# Altium footprint library DDS1.PcbLib: 136 footprints (part 6 of 9)
Each footprint in its own frame and in the unit in brackets; x right, y up, seen from the top. Pads: shape width x height; smd on the part's side, far side on the other; paste and mask are expansions set on the pad; w line width, h text height; cw(c..) or ccw(c..) is an arc to the next point about the centre after c.
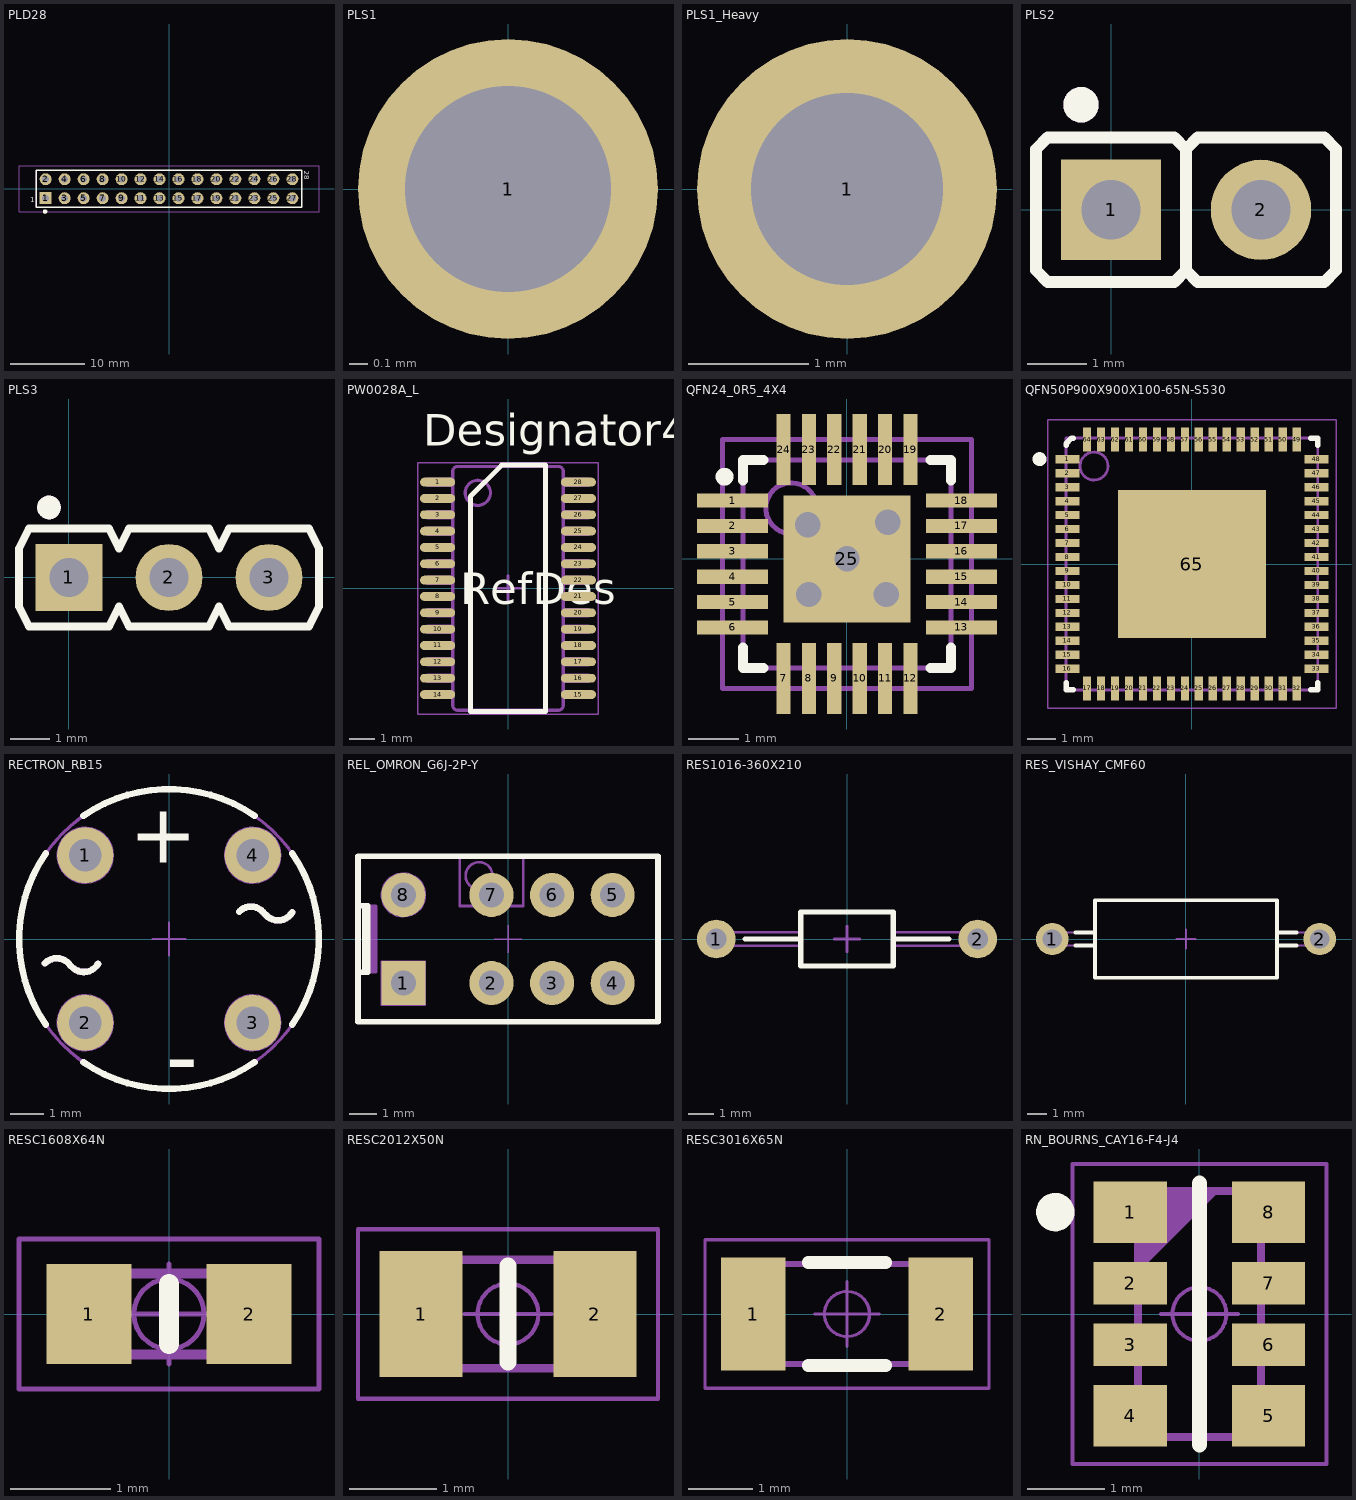
[diagram p5: the footprints below, top view; thin cyan lines are the x and y axes]

## PLD28 [mm]
pads (28):
  rect 1.6x1.6 hole 0.9: 1(-16.51,-1.27)
  round 1.6 hole 0.9: 2(-16.51,1.27) 3(-13.97,-1.27) 4(-13.97,1.27) 5(-11.43,-1.27) 6(-11.43,1.27) 7(-8.89,-1.27) 8(-8.89,1.27) 9(-6.35,-1.27) 10(-6.35,1.27) 11(-3.81,-1.27) 12(-3.81,1.27) 13(-1.27,-1.27) 14(-1.27,1.27) 15(1.27,-1.27) 16(1.27,1.27) 17(3.81,-1.27) 18(3.81,1.27) 19(6.35,-1.27) 20(6.35,1.27) 21(8.89,-1.27) 22(8.89,1.27) 23(11.43,-1.27) 24(11.43,1.27) 25(13.97,-1.27) 26(13.97,1.27) 27(16.51,-1.27) 28(16.51,1.27)
Top Overlay:
  circle w0.3: c-16.583,-3.048 r0.15
  lines w0.2: -17.78,-2.5 17.78,-2.5 17.78,2.5 -17.78,2.5 -17.78,-2.5
  text "28" at 18.125,2.427 h0.7
  text "1" at -18.542,-1.778 h0.7
Mechanical 8:
  lines w0.1: -20.07,-3.05 20.07,-3.05 20.07,3.05 -20.07,3.05 -20.07,-3.05
Mechanical 14:
  lines w0.1: -17.78,-2.5 17.78,-2.5 17.78,2.5 -17.78,2.5 -17.78,-2.5
3D body "COMATEL_389.0358.1.28.400.stp": height 8, standoff -3.2, extent -17.78,-3 17.78,2.5

## PLS1 [mm]
pads (1):
  round 1.6 hole 1.1: 1(0,0)

## PLS1_Heavy [mm]
pads (1):
  round 2.5 hole 1.6: 1(0,0)

## PLS2 [mm] "2 Contacts Straight Strip Header Pitch 2.54mm L=6.7mm ''Mini-Wire-Wrap''"
height 9.5
pads (2):
  rect 1.7x1.7 hole 1: 1(0,0)
  round 1.7 hole 1: 2(2.54,0)
Top Overlay:
  circle w0.3: c-0.508,1.778 r0.15
  lines w0.2: 1.27,-1.025 1.07,-1.225 -1.07,-1.225 -1.27,-1.025 -1.27,1.025 -1.07,1.225 1.07,1.225 1.27,1.025 ; 1.27,-1.025 1.27,1.025 ; 1.27,-1.025 1.47,-1.225 3.61,-1.225 3.81,-1.025 3.81,1.025 3.61,1.225 1.47,1.225 1.27,1.025
Mechanical 14:
  circle w0.3: c-0.508,1.778 r0.15
  lines w0.1: 1.27,-1.025 1.07,-1.225 -1.07,-1.225 -1.27,-1.025 -1.27,1.025 -1.07,1.225 1.07,1.225 1.27,1.025 ; 1.27,-1.025 1.27,1.025 ; 1.27,-1.025 1.47,-1.225 3.61,-1.225 3.81,-1.025 3.81,1.025 3.61,1.225 1.47,1.225 1.27,1.025
3D body "TYCO_826629-2.stp": height 9.5, standoff -3.2, extent -1.22,-1.25 3.86,1.25

## PLS3 [mm] "3 Contacts - Pitch 2.54mm - Single Row Through Mount Straight Header (Post Lead = 6.35mm, Tail Lead 3.05mm, Insulator 1.52mm)"
height 7.87
pads (3):
  rect 1.7x1.7 hole 1: 1(0,0)
  round 1.7 hole 1: 2(2.54,0) 3(5.08,0)
Top Overlay:
  circle w0.3: c-0.508,1.778 r0.15
  lines w0.2: -1.27,-0.737 -1.27,0.737 -1.016,1.245 1.016,1.245 1.27,0.737 1.524,1.245 3.556,1.245 3.81,0.737 4.064,1.245 6.096,1.245 6.35,0.737 6.35,-0.737 6.096,-1.245 4.064,-1.245 3.81,-0.737 3.556,-1.245 1.524,-1.245 1.27,-0.737 1.016,-1.245 -1.016,-1.245 -1.27,-0.737
Mechanical 8:
  lines w0.1: -0.5,0 0,0 ; 0,-0.5 0,0 ; 0,0.5 0,0 ; 0.5,0 0,0 ; 2.04,0 2.54,0 ; 2.54,-0.5 2.54,0 ; 2.54,0.5 2.54,0 ; 3.04,0 2.54,0 ; 4.58,0 5.08,0 ; 5.08,-0.5 5.08,0 ; 5.08,0.5 5.08,0 ; 5.58,0 5.08,0
Mechanical 14:
  circle w0.3: c-0.508,1.778 r0.15
  lines w0.1: -1.27,-0.737 -1.27,0.737 -1.016,1.245 1.016,1.245 1.27,0.737 1.524,1.245 3.556,1.245 3.81,0.737 4.064,1.245 6.096,1.245 6.35,0.737 6.35,-0.737 6.096,-1.245 4.064,-1.245 3.81,-0.737 3.556,-1.245 1.524,-1.245 1.27,-0.737 1.016,-1.245 -1.016,-1.245 -1.27,-0.737 ; -0.317,-0.318 -0.317,0.318 0.318,0.318 0.318,-0.318 -0.317,-0.318 ; 2.223,-0.318 2.223,0.318 2.858,0.318 2.858,-0.318 2.223,-0.318 ; 4.763,-0.318 4.763,0.318 5.398,0.318 5.398,-0.318 4.763,-0.318
3D body "SAMTEC_MTLW-103-07-L-S-250.stp": height 7.87, standoff -3.05, extent -1.27,-1.244 6.35,1.245

## PW0028A_L [mm]
pads (28):
  oval 1.4x0.35 smd paste+0 mask+0.051: 1(-2.8,4.225) 2(-2.8,3.575) 3(-2.8,2.925) 4(-2.8,2.275) 5(-2.8,1.625) 6(-2.8,0.975) 7(-2.8,0.325) 8(-2.8,-0.325) 9(-2.8,-0.975) 10(-2.8,-1.625) 11(-2.8,-2.275) 12(-2.8,-2.925) 13(-2.8,-3.575) 14(-2.8,-4.225) 15(2.8,-4.225) 16(2.8,-3.575) 17(2.8,-2.925) 18(2.8,-2.275) 19(2.8,-1.625) 20(2.8,-0.975) 21(2.8,-0.325) 22(2.8,0.325) 23(2.8,0.975) 24(2.8,1.625) 25(2.8,2.275) 26(2.8,2.925) 27(2.8,3.575) 28(2.8,4.225)
Top Overlay:
  lines w0.2: -1.5,-4.9 1.5,-4.9 1.5,4.9 -0.25,4.9 -1.5,3.65 -1.5,-4.9
  text "RefDes" at -1.905,-0.635 h1.27
  text "Designator459" at -3.378,5.664 h1.27
Mechanical 13:
  drawing of 346 lines, arcs and shapes, not listed
Mechanical 15:
  lines w0.05: -3.6,-5 3.6,-5 3.6,5 -3.6,5 -3.6,-5
  lines w0.1: -0.5,0 0.5,0 ; 0,-0.5 0,0.5

## QFN24_0R5_4X4 [mm] "SQFN 24 Pins, Pitch 0.5mm, 4mmx4mm"
height 1
pads (25):
  rect 1.4x0.28 smd: 1(-2.255,1.15) 2(-2.255,0.65) 3(-2.255,0.15) 4(-2.255,-0.35) 5(-2.255,-0.85) 6(-2.255,-1.35) 13(2.255,-1.35) 14(2.255,-0.85) 15(2.255,-0.35) 16(2.255,0.15) 17(2.255,0.65) 18(2.255,1.15)
  rect 0.28x1.4 smd: 7(-1.25,-2.355) 8(-0.75,-2.355) 9(-0.25,-2.355) 10(0.25,-2.355) 11(0.75,-2.355) 12(1.25,-2.355) 19(1.25,2.155) 20(0.75,2.155) 21(0.25,2.155) 22(-0.25,2.155) 23(-0.75,2.155) 24(-1.25,2.155)
  rect 2.5x2.5 all layers, no hole: 25(0,0)
via 0.775,-0.7 diameter 0.9 hole 0.5
via -0.775,0.675 diameter 0.9 hole 0.5
via 0.8,0.725 diameter 0.9 hole 0.5
via -0.75,-0.7 diameter 0.9 hole 0.5
via 0,0 diameter 0.9 hole 0.5
Top Overlay:
  circle w0.25: c-2.413,1.619 r0.051
  lines w0.2: -2.05,-1.751 -2.05,-2.15 -1.651,-2.15 ; -2.05,1.551 -2.05,1.95 -1.651,1.95 ; 1.651,-2.15 2.05,-2.15 2.05,-1.751 ; 1.651,1.95 2.05,1.95 2.05,1.551
Mechanical 13:
  circle w0.1: c-1.1,1 r0.5
  lines w0.1: -2.05,-2.15 -2.05,1.95 2.05,1.95 2.05,-2.15 -2.05,-2.15
Mechanical 15:
  lines w0.1: -0.5,-0.1 0.5,-0.1 ; 0,-0.6 0,0.4 ; -2.45,-2.55 -2.45,2.35 2.45,2.35 2.45,-2.55 -2.45,-2.55
3D body: height 1, standoff 0.02, extent -2.05,-2.15 2.05,1.95

## QFN50P900X900X100-65N-S530 [mm]
height 9.7
pads (65):
  rect 0.85x0.3 smd: 1(-4.45,3.75) 2(-4.45,3.25) 3(-4.45,2.75) 4(-4.45,2.25) 5(-4.45,1.75) 6(-4.45,1.25) 7(-4.45,0.75) 8(-4.45,0.25) 9(-4.45,-0.25) 10(-4.45,-0.75) 11(-4.45,-1.25) 12(-4.45,-1.75) 13(-4.45,-2.25) 14(-4.45,-2.75) 15(-4.45,-3.25) 16(-4.45,-3.75) 33(4.45,-3.75) 34(4.45,-3.25) 35(4.45,-2.75) 36(4.45,-2.25) 37(4.45,-1.75) 38(4.45,-1.25) 39(4.45,-0.75) 40(4.45,-0.25) 41(4.45,0.25) 42(4.45,0.75) 43(4.45,1.25) 44(4.45,1.75) 45(4.45,2.25) 46(4.45,2.75) 47(4.45,3.25) 48(4.45,3.75)
  rect 0.3x0.85 smd: 17(-3.75,-4.45) 18(-3.25,-4.45) 19(-2.75,-4.45) 20(-2.25,-4.45) 21(-1.75,-4.45) 22(-1.25,-4.45) 23(-0.75,-4.45) 24(-0.25,-4.45) 25(0.25,-4.45) 26(0.75,-4.45) 27(1.25,-4.45) 28(1.75,-4.45) 29(2.25,-4.45) 30(2.75,-4.45) 31(3.25,-4.45) 32(3.75,-4.45) 49(3.75,4.45) 50(3.25,4.45) 51(2.75,4.45) 52(2.25,4.45) 53(1.75,4.45) 54(1.25,4.45) 55(0.75,4.45) 56(0.25,4.45) 57(-0.25,4.45) 58(-0.75,4.45) 59(-1.25,4.45) 60(-1.75,4.45) 61(-2.25,4.45) 62(-2.75,4.45) 63(-3.25,4.45) 64(-3.75,4.45)
  rect 5.3x5.3 smd: 65(0,0)
Top Overlay:
  circle w0.25: c-5.45,3.75 r0.125
  lines w0.2: -4.5,-4.25 -4.5,-4.5 -4.25,-4.5 ; -4.5,4.25 -4.5,4.3 -4.3,4.5 -4.25,4.5 ; 4.25,-4.5 4.5,-4.5 4.5,-4.25 ; 4.25,4.5 4.5,4.5 4.5,4.25
Top Paste:
  region: -1.98,-2.5 -0.36,-2.5 -0.36,-0.36 -1.98,-0.36
  region: 0.36,-2.5 1.98,-2.5 1.98,-0.36 0.36,-0.36
  region: -1.98,0.36 -0.36,0.36 -0.36,2.5 -1.98,2.5
  region: 0.36,0.36 1.98,0.36 1.98,2.5 0.36,2.5
Mechanical 14:
  circle w0.1: c-3.5,3.5 r0.5
  lines w0.1: -4.5,-4.5 4.5,-4.5 4.5,4.5 -4.5,4.5 -4.5,-4.5
Mechanical 15:
  circle w0.05: c0,0 r0.35
  lines w0.05: -0.5,0 0.5,0 ; 0,-0.5 0,0.5 ; -5.15,-5.15 5.15,-5.15 5.15,5.15 -5.15,5.15 -5.15,-5.15
3D body "QFN50P900X900X100-65N-R541X645.stp": height 1, standoff 0, extent -4.5,-4.5 4.5,4.5

## RECTRON_RB15 [mm] "Bridge Rectifier, Body 9.1mm diam. x 3.8mm H, RECTRON Case Type RB15"
height 11.7
pads (4):
  round 1.7 hole 1: 1(-2.54,2.54) 2(-2.54,-2.54) 3(2.54,-2.54) 4(2.54,2.54)
Top Overlay:
  lines w0.2: -3.765,-0.737 cw(c-3.405,-1.084) -2.99,-0.805 ; -3.739,-2.593 cw(c0,0) -3.739,2.593 ; -2.965,-0.825 ccw(c-2.584,-0.502) -2.155,-0.759 ; -2.593,-3.739 ccw(c0,0) 2.593,-3.739 ; -2.593,3.739 cw(c0,0) 2.593,3.739 ; 2.125,0.828 cw(c2.485,0.481) 2.9,0.76 ; 2.925,0.74 ccw(c3.306,1.063) 3.735,0.806 ; 3.739,-2.593 ccw(c0,0) 3.739,2.593
  text "+" at -1.2,2.32 h1.8
  text "-" at -0.105,-4.52 h2
Mechanical 8:
  circle w0.05: c-2.54,2.54 r0.85
  circle w0.05: c-2.54,2.54 r0.5
  circle w0.05: c2.54,2.54 r0.85
  circle w0.05: c2.54,2.54 r0.5
  circle w0.05: c2.54,-2.54 r0.85
  circle w0.05: c2.54,-2.54 r0.5
  circle w0.05: c-2.54,-2.54 r0.85
  circle w0.05: c-2.54,-2.54 r0.5
  lines w0.05: -3.04,-2.54 -2.54,-2.54 ; -3.04,2.54 -2.54,2.54 ; -2.54,-3.04 -2.54,-2.54 ; -2.54,-2.04 -2.54,-2.54 ; -2.54,2.04 -2.54,2.54 ; -2.54,3.04 -2.54,2.54 ; -2.04,-2.54 -2.54,-2.54 ; -2.04,2.54 -2.54,2.54 ; -0.5,0 0,0 ; 0,-0.5 0,0 ; 0,0.5 0,0 ; 0.5,0 0,0 ; 2.04,-2.54 2.54,-2.54 ; 2.04,2.54 2.54,2.54 ; 2.54,-3.04 2.54,-2.54 ; 2.54,-2.04 2.54,-2.54 ; 2.54,2.04 2.54,2.54 ; 2.54,3.04 2.54,2.54 ; 3.04,-2.54 2.54,-2.54 ; 3.04,2.54 2.54,2.54
Mechanical 14:
  circle w0.1: c0,0 r4.55
  lines w0.2: -3.765,-0.737 cw(c-3.405,-1.084) -2.99,-0.805 ; -2.965,-0.825 ccw(c-2.584,-0.502) -2.155,-0.759 ; 2.125,0.828 cw(c2.485,0.481) 2.9,0.76 ; 2.925,0.74 ccw(c3.306,1.063) 3.735,0.806
  text "+" at -1.2,2.32 h1.8
  text "-" at -0.105,-4.52 h2
3D body "RECTRON_RB15.stp": height 11.7, standoff -3.2, extent -4.55,-4.55 4.55,4.55

## REL_OMRON_G6J-2P-Y [mm] "THT Relay, Body 10.9mm x 6mm, OMRON_G6J-2P"
height 9.3
pads (8):
  rect 1.6x1.6 hole 0.9: 1(-3.8,-1.6)
  round 1.6 hole 0.9: 2(-0.6,-1.6) 3(1.6,-1.6) 4(3.8,-1.6) 5(3.8,1.6) 6(1.6,1.6) 7(-0.6,1.6) 8(-3.8,1.6)
Top Overlay:
  lines w0.2: -5.3,-1.2 -5.1,-1.2 -5.1,1.2 -5.3,1.2 ; -5.2,-1.2 -5.2,1.2 ; -5.45,-3 -5.45,3 5.45,3 5.45,-3 -5.45,-3
Mechanical 8:
  circle w0.05: c-3.8,-1.6 r0.45
  circle w0.05: c-3.8,1.6 r0.8
  circle w0.05: c-3.8,1.6 r0.45
  lines w0.05: -4.3,-1.6 -3.8,-1.6 ; -4.3,1.6 -3.8,1.6 ; -3.8,-2.1 -3.8,-1.6 ; -3.8,-1.1 -3.8,-1.6 ; -3.8,1.1 -3.8,1.6 ; -3.8,2.1 -3.8,1.6 ; -3.3,-1.6 -3.8,-1.6 ; -3.3,1.6 -3.8,1.6 ; -1.1,-1.6 -0.6,-1.6 ; -1.1,1.6 -0.6,1.6 ; -0.6,-2.1 -0.6,-1.6 ; -0.6,-1.1 -0.6,-1.6 ; -0.6,1.1 -0.6,1.6 ; -0.6,2.1 -0.6,1.6 ; -0.5,0 0,0 ; -0.1,-1.6 -0.6,-1.6 ; -0.1,1.6 -0.6,1.6 ; 0,-0.5 0,0 ; 0,0.5 0,0 ; 0.5,0 0,0 ; 1.1,-1.6 1.6,-1.6 ; 1.1,1.6 1.6,1.6 ; 1.6,-2.1 1.6,-1.6 ; 1.6,-1.1 1.6,-1.6 ; 1.6,1.1 1.6,1.6 ; 1.6,2.1 1.6,1.6 ; 2.1,-1.6 1.6,-1.6 ; 2.1,1.6 1.6,1.6 ; 3.3,-1.6 3.8,-1.6 ; 3.3,1.6 3.8,1.6 ; 3.8,-2.1 3.8,-1.6 ; 3.8,-1.1 3.8,-1.6 ; 3.8,1.1 3.8,1.6 ; 3.8,2.1 3.8,1.6 ; 4.3,-1.6 3.8,-1.6 ; 4.3,1.6 3.8,1.6 ; -4.6,-2.4 -3,-2.4 -3,-0.8 -4.6,-0.8 -4.6,-2.4
Mechanical 14:
  circle w0.1: c-0.05,1.7 r0.15
  circle w0.1: c-1.05,2.3 r0.49
  lines w0.1: -5.3,-1.2 -4.8,-1.2 -4.8,1.2 -5.3,1.2 ; -5.2,-1.2 -5.2,1.2 ; -5.1,-1.2 -5.1,1.2 ; -5,-1.2 -5,1.2 ; -4.9,-1.2 -4.9,1.2 ; -1.75,3 -1.75,1.2 0.55,1.2 0.55,3 ; -5.45,-3 -5.45,3 5.45,3 5.45,-3 -5.45,-3
3D body "REL_OMRON_G6J-2P-Y.stp": height 9.3, standoff -3.5, extent -5.45,-3 5.45,3

## RES1016-360X210 [mm] "Resistor, Axial, Pad spacing 10.16 mm - Body Lengh 3.6mm X Body Diameter 2.1mm"
height 2.1
pads (2):
  round 1.5 hole 0.8: 1(-5.08,0) 2(5.08,0)
Top Overlay:
  lines w0.2: -3.96,0 -1.8,0 ; 1.8,0 3.96,0 ; -1.8,-1.05 -1.8,1.05 1.8,1.05 1.8,-1.05 -1.8,-1.05
Mechanical 8:
  lines w0.1: -5.58,0 -5.08,0 ; -5.08,-0.5 -5.08,0 ; -5.08,0.5 -5.08,0 ; -4.58,0 -5.08,0 ; -0.5,0 0,0 ; 0,-0.5 0,0 ; 0,0.5 0,0 ; 0.5,0 0,0 ; 4.58,0 5.08,0 ; 5.08,-0.5 5.08,0 ; 5.08,0.5 5.08,0 ; 5.58,0 5.08,0
Mechanical 14:
  lines w0.1: -1.8,-0.26 -5.08,-0.26 cw(c-5.08,0) -5.08,0.26 -1.8,0.26 ; 1.8,-0.26 5.08,-0.26 ccw(c5.08,0) 5.08,0.26 1.8,0.26 ; -1.8,-1.05 -1.8,1.05 1.8,1.05 1.8,-1.05 -1.8,-1.05
3D body "RES1016-360X210.stp": height 2.1, standoff -3.6, extent -5.34,-1.05 5.34,1.05

## RES_VISHAY_CMF60 [mm]
pads (2):
  round 1.7 hole 1: 1(-7,0) 2(7,0)
Top Overlay:
  lines w0.2: -5.799,-0.345 -4.765,-0.345 ; -5.799,0.345 -4.765,0.345 ; 4.765,-0.345 5.799,-0.345 ; 4.765,0.345 5.799,0.345 ; -4.765,-2.03 -4.765,2.03 4.765,2.03 4.765,-2.03 -4.765,-2.03
Mechanical 8:
  lines w0.1: -7.5,0 -7,0 ; -7,-0.5 -7,0 ; -7,0.5 -7,0 ; -6.5,0 -7,0 ; -0.5,0 0,0 ; 0,-0.5 0,0 ; 0,0.5 0,0 ; 0.5,0 0,0 ; 6.5,0 7,0 ; 7,-0.5 7,0 ; 7,0.5 7,0 ; 7.5,0 7,0
Mechanical 14:
  lines w0.1: -4.765,-0.345 -7,-0.345 cw(c-7,0) -7,0.345 -4.765,0.345 ; 4.765,-0.345 7,-0.345 ccw(c7,0) 7,0.345 4.765,0.345 ; -4.765,-2.03 -4.765,2.03 4.765,2.03 4.765,-2.03 -4.765,-2.03
3D body "RES_VISHAY_CMF60.stp": height 4.06, standoff -3.6, extent -7.345,-2.03 7.345,2.03

## RESC1608X64N [mm]
pads (2):
  rect 0.85x1 smd: 1(-0.8,0) 2(0.8,0)
Top Overlay:
  lines w0.2: 0,-0.3 0,0.3
Mechanical 14:
  lines w0.1: -0.8,-0.405 -0.8,0.405 0.8,0.405 0.8,-0.405 -0.8,-0.405
Mechanical 15:
  circle w0.05: c0,0 r0.35
  lines w0.05: -0.5,0 0.5,0 ; 0,-0.5 0,0.5 ; -1.5,-0.75 -1.5,0.75 1.5,0.75 1.5,-0.75 -1.5,-0.75
3D body "RESC1608X64N.stp": height 0.64, standoff 0, extent -0.875,-0.475 0.875,0.475

## RESC2012X50N [mm]
pads (2):
  rect 0.95x1.45 smd: 1(-1,0) 2(1,0)
Top Overlay:
  lines w0.2: 0,-0.55 0,0.55
Mechanical 14:
  lines w0.1: -1.025,-0.625 1.025,-0.625 1.025,0.625 -1.025,0.625 -1.025,-0.625
Mechanical 15:
  circle w0.05: c0,0 r0.35
  lines w0.05: -0.5,0 0.5,0 ; 0,-0.5 0,0.5 ; -1.725,-0.975 1.725,-0.975 1.725,0.975 -1.725,0.975 -1.725,-0.975
3D body "RESC2012X50N.stp": height 0.5, standoff 0, extent -1.1,-0.675 1.1,0.675

## RESC3016X65N [mm] "Chip Resistor, EIA 1206, Metric 3016, Body 3.05x1.55mm, IPC Medium Density"
height 0.65
pads (2):
  rect 1x1.75 smd: 1(-1.45,0) 2(1.45,0)
Top Overlay:
  lines w0.2: -0.6,-0.8 0.6,-0.8 ; -0.6,0.8 0.6,0.8
Mechanical 14:
  lines w0.1: -1.525,-0.775 1.525,-0.775 1.525,0.775 -1.525,0.775 -1.525,-0.775
Mechanical 15:
  circle w0.05: c0,0 r0.35
  lines w0.05: -0.5,0 0.5,0 ; 0,-0.5 0,0.5 ; -2.2,-1.15 2.2,-1.15 2.2,1.15 -2.2,1.15 -2.2,-1.15
3D body "RESC3016X65N.stp": height 0.65, standoff 0, extent -1.6,-0.85 1.6,0.85

## RN_BOURNS_CAY16-F4-J4 [mm] "Resistor, Chip Array, Convex S Version, Pitch 0.80mm, 8-Leads,1.6x3.2mm, BOURNS Type CAY16-F4 or J4, IPC Medium Density"
height 0.6
pads (8):
  rect 0.95x0.8 smd: 1(-0.9,1.325) 4(-0.9,-1.325) 5(0.9,-1.325) 8(0.9,1.325)
  rect 0.95x0.55 smd: 2(-0.9,0.4) 3(-0.9,-0.4) 6(0.9,-0.4) 7(0.9,0.4)
Top Overlay:
  circle w0.25: c-1.875,1.325 r0.125
  lines w0.2: 0,-1.7 0,1.7
Mechanical 14:
  lines w0.1: -0.8,-1.6 -0.8,1.6 0.8,1.6 0.8,-1.6 -0.8,-1.6 ; -0.8,0.6 0.2,1.6 -0.8,0.6 ; -0.8,0.7 0.1,1.6 -0.8,0.7 ; -0.8,0.8 0,1.6 -0.8,0.8 ; -0.8,0.9 -0.1,1.6 -0.8,0.9 ; -0.8,1 -0.2,1.6 -0.8,1 ; -0.8,1.1 -0.3,1.6 -0.8,1.1 ; -0.8,1.2 -0.4,1.6 -0.8,1.2 ; -0.8,1.3 -0.5,1.6 -0.8,1.3 ; -0.8,1.4 -0.6,1.6 -0.8,1.4 ; -0.8,1.5 -0.7,1.6 -0.8,1.5
Mechanical 15:
  circle w0.05: c0,0 r0.35
  lines w0.05: -0.5,0 0.5,0 ; 0,-0.5 0,0.5 ; -1.65,-1.95 -1.65,1.95 1.65,1.95 1.65,-1.95 -1.65,-1.95
3D body "RN_BOURNS_CAY16-F4-J4.stp": height 0.5, standoff 0, extent -0.8,-1.65 0.8,1.65